# EAGLE library part ANALOG_DEVICES_ADG819BRTZ-500RL7 (library stopwatch)
ADI-ADG819-RJ-6
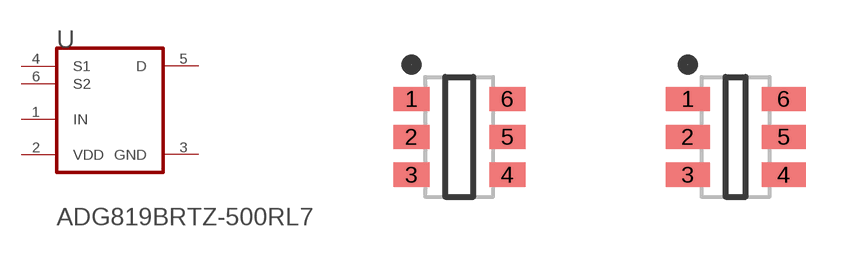
[diagram p1: symbol with the pads of ANALOG_DEVICES_ADG819BRTZ-500RL7_0; footprints ANALOG_DEVICES_ADG819BRTZ-500RL7_0, ANALOG_DEVICES_ADG819BRTZ-500RL7_1]

Designator prefix U

## ANALOG_DEVICES_ADG819BRTZ-500RL7ANALOG_DEVICES_ADG819BRTZ-500RL7_0_0 (CIIVA_IDS: 981692; CODE__JEDEC: MO-178-AB; COMPONENT_LINK_1_DESCRIPTION: Manufacturer URL; COMPONENT_LINK_1_URL: http://www.analog.com/en/index.html; COMPONENT_LINK_3_DESCRIPTION: Package Specification; COMPONENT_LINK_3_URL: http://www.analog.com/static/imported-files/packages/PKG_PDF/SOT-23(RJ)/RJ_6.pdf; CONFIGURATION: SPDT; DATASHEET: http://www.analog.com/static/imported-files/data_sheets/ADG819.pdf; DATASHEET_VERSION: 02-03-2012-A; FOOTPRINT_VARIANT_NAME_0: Level C; FOOTPRINT_VARIANT_NAME_1: Level B; FOOTPRINT_VARIANT_NAME_2: Level A; ID_IS_ON: 10pA, 10pA; IMPORTED: yes; IMPORTED_FROM: vault; IMPORT_TS: 1521850153; IS_OFF: 10pA, 10pA; MAX_POS_SUPPLY: 5.5V; MF: Analog Devices; MIN_POS_SUPPLY: 1.8V; MOUNTING_TECHNOLOGY: Surface Mount; MPN: ADG819BRTZ-500RL7; PACKAGE: RJ-6; PACKAGE_DESCRIPTION: 6-Pin Small Outline Transistor Package, Body 2.9 x 1.6 mm, Pitch 0.95 mm; PACKAGE_VERSION: 121608-A, 12/2008; PACKING: Reel; POWER_DISSIPATION: 5uW; PREFIX: U; RELEASE_DATE: 1391088884; RON_OHMS: 0.5; SW_FUNCTIONS: 1; VAULT_GUID: A332F1F2-24D9-455B-AD4F-0000C694F255; VAULT_REVISION: 16F06DAC-B0D8-4871-B5D1-01493EE71A7B)  [ANALOG_DEVICES_ADG819BRTZ-500RL7_0]
1  IN  in
2  VDD  pwr
3  GND  pwr
4  S1  pas
5  D  pas
6  S2  pas

## ANALOG_DEVICES_ADG819BRTZ-500RL7ANALOG_DEVICES_ADG819BRTZ-500RL7_0_1 (CIIVA_IDS: 981692; CODE__JEDEC: MO-178-AB; COMPONENT_LINK_1_DESCRIPTION: Manufacturer URL; COMPONENT_LINK_1_URL: http://www.analog.com/en/index.html; COMPONENT_LINK_3_DESCRIPTION: Package Specification; COMPONENT_LINK_3_URL: http://www.analog.com/static/imported-files/packages/PKG_PDF/SOT-23(RJ)/RJ_6.pdf; CONFIGURATION: SPDT; DATASHEET: http://www.analog.com/static/imported-files/data_sheets/ADG819.pdf; DATASHEET_VERSION: 02-03-2012-A; FOOTPRINT_VARIANT_NAME_0: Level C; FOOTPRINT_VARIANT_NAME_1: Level B; FOOTPRINT_VARIANT_NAME_2: Level A; ID_IS_ON: 10pA, 10pA; IMPORTED: yes; IMPORTED_FROM: vault; IMPORT_TS: 1521850153; IS_OFF: 10pA, 10pA; MAX_POS_SUPPLY: 5.5V; MF: Analog Devices; MIN_POS_SUPPLY: 1.8V; MOUNTING_TECHNOLOGY: Surface Mount; MPN: ADG819BRTZ-500RL7; PACKAGE: RJ-6; PACKAGE_DESCRIPTION: 6-Pin Small Outline Transistor Package, Body 2.9 x 1.6 mm, Pitch 0.95 mm; PACKAGE_VERSION: 121608-A, 12/2008; PACKING: Reel; POWER_DISSIPATION: 5uW; PREFIX: U; RELEASE_DATE: 1391088884; RON_OHMS: 0.5; SW_FUNCTIONS: 1; VAULT_GUID: A332F1F2-24D9-455B-AD4F-0000C694F255; VAULT_REVISION: 16F06DAC-B0D8-4871-B5D1-01493EE71A7B)  [ANALOG_DEVICES_ADG819BRTZ-500RL7_1]
Pads as for ANALOG_DEVICES_ADG819BRTZ-500RL7_0

## ANALOG_DEVICES_ADG819BRTZ-500RL7ANALOG_DEVICES_ADG819BRTZ-500RL7_0_2 (CIIVA_IDS: 981692; CODE__JEDEC: MO-178-AB; COMPONENT_LINK_1_DESCRIPTION: Manufacturer URL; COMPONENT_LINK_1_URL: http://www.analog.com/en/index.html; COMPONENT_LINK_3_DESCRIPTION: Package Specification; COMPONENT_LINK_3_URL: http://www.analog.com/static/imported-files/packages/PKG_PDF/SOT-23(RJ)/RJ_6.pdf; CONFIGURATION: SPDT; DATASHEET: http://www.analog.com/static/imported-files/data_sheets/ADG819.pdf; DATASHEET_VERSION: 02-03-2012-A; FOOTPRINT_VARIANT_NAME_0: Level C; FOOTPRINT_VARIANT_NAME_1: Level B; FOOTPRINT_VARIANT_NAME_2: Level A; ID_IS_ON: 10pA, 10pA; IMPORTED: yes; IMPORTED_FROM: vault; IMPORT_TS: 1521850153; IS_OFF: 10pA, 10pA; MAX_POS_SUPPLY: 5.5V; MF: Analog Devices; MIN_POS_SUPPLY: 1.8V; MOUNTING_TECHNOLOGY: Surface Mount; MPN: ADG819BRTZ-500RL7; PACKAGE: RJ-6; PACKAGE_DESCRIPTION: 6-Pin Small Outline Transistor Package, Body 2.9 x 1.6 mm, Pitch 0.95 mm; PACKAGE_VERSION: 121608-A, 12/2008; PACKING: Reel; POWER_DISSIPATION: 5uW; PREFIX: U; RELEASE_DATE: 1391088884; RON_OHMS: 0.5; SW_FUNCTIONS: 1; VAULT_GUID: A332F1F2-24D9-455B-AD4F-0000C694F255; VAULT_REVISION: 16F06DAC-B0D8-4871-B5D1-01493EE71A7B)  [ANALOG_DEVICES_ADG819BRTZ-500RL7_2]
Pads as for ANALOG_DEVICES_ADG819BRTZ-500RL7_0

## Footprint ANALOG_DEVICES_ADG819BRTZ-500RL7_0 (pad centres in mm)
ADI-ADG819-RJ-6
smd 0.9 x 0.6: 1 -1.2,0.95; 2 -1.2,0; 3 -1.2,-0.95; 4 1.2,-0.95; 5 1.2,0; 6 1.2,0.95

## Footprint ANALOG_DEVICES_ADG819BRTZ-500RL7_1 (pad centres in mm)
ADI-ADG819-RJ-6
smd 1.1 x 0.6: 1 -1.2,0.95; 2 -1.2,0; 3 -1.2,-0.95; 4 1.2,-0.95; 5 1.2,0; 6 1.2,0.95

## Footprint ANALOG_DEVICES_ADG819BRTZ-500RL7_2 (pad centres in mm)
ADI-ADG819-RJ-6
smd 1.3 x 0.7: 1 -1.2,0.95; 2 -1.2,0; 3 -1.2,-0.95; 4 1.2,-0.95; 5 1.2,0; 6 1.2,0.95